# Altium footprint library DIOM7958X241N.PcbLib: 1 footprints
Each footprint in its own frame and in the unit in brackets; x right, y up, seen from the top. Pads: shape width x height; smd on the part's side, far side on the other; paste and mask are expansions set on the pad; w line width, h text height; cw(c..) or ccw(c..) is an arc to the next point about the centre after c.
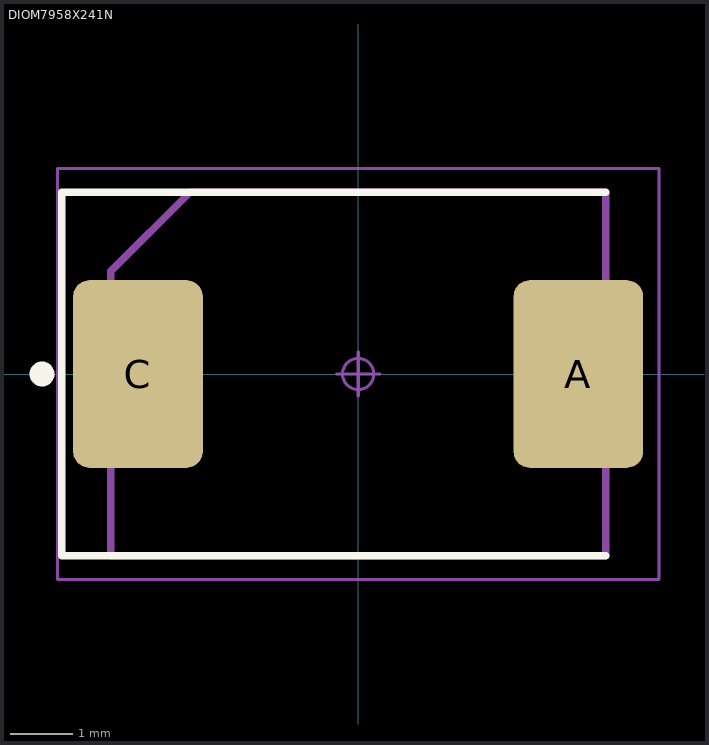
[diagram p0: the footprint, top view; thin cyan lines are the x and y axes]

## DIOM7958X241N [mm] "Diode, Molded Body; 7.94 mm L X 5.845 mm W X 2.41 mm H body"
height 2.41
pads (2):
  rrect24% 2.08x3.01 smd: A(3.535,0) C(-3.535,0)
Top Overlay:
  circle w0.2: c-5.075,0 r0.1
  lines w0.12: 3.97,-2.92 -4.755,-2.92 -4.755,2.92 3.97,2.92
Mechanical 11:
  lines w0.12: -3.97,-2.92 3.97,-2.92 3.97,2.92 -2.7,2.92 -3.97,1.65 -3.97,-2.92
Mechanical 15:
  circle w0.05: c0,0 r0.25
  lines w0.05: -0.35,0 0.35,0 ; 0,-0.35 0,0.35 ; -4.83,-3.3 4.83,-3.3 4.83,3.3 -4.83,3.3 -4.83,-3.3
3D body: height 2.4, standoff 0.03, extent -4.065,-3.05 4.065,3.05